# Altium footprint library 172065-00xx.PcbLib: 6 footprints
Each footprint in its own frame and in the unit in brackets; x right, y up, seen from the top. Pads: shape width x height; smd on the part's side, far side on the other; paste and mask are expansions set on the pad; w line width, h text height; cw(c..) or ccw(c..) is an arc to the next point about the centre after c.
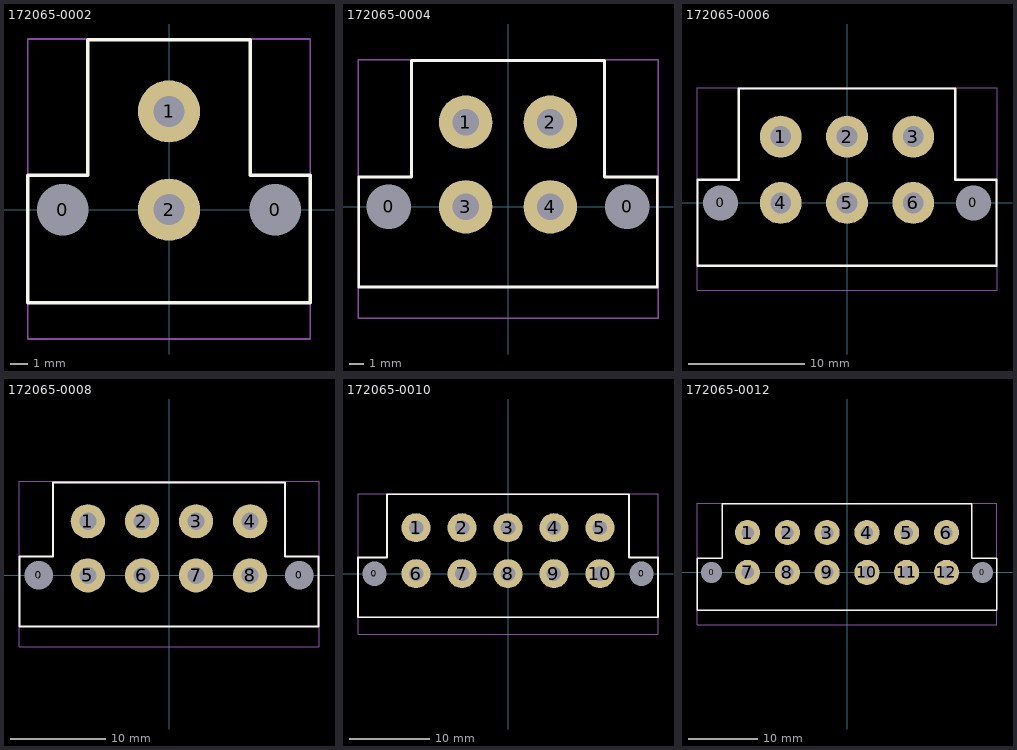
[diagram p0: the footprints below, top view; thin cyan lines are the x and y axes]

## 172065-0002 [mm]
pads (4):
  oval 2x1.5 hole 3: 0(-6.17,0) 0(6.17,0)
  round 3.6 hole 1.8: 1(0,5.7) 2(0,0)
Top Overlay:
  lines w0.2: -8.2,-5.4 -8.2,2 -4.7,2 -4.7,9.85 4.7,9.85 4.7,2 8.2,2 8.2,-5.4 -8.2,-5.4
Border:
  lines w0.1: -8.2,-7.5 8.2,-7.5 8.2,9.9 -8.2,9.9 -8.2,-7.5
3D body "1720650002.stp": height 14.81, standoff -3.75, extent -7.67,-4.97 7.668,9.01

## 172065-0004 [mm]
pads (6):
  oval 2x1.5 hole 3: 0(-8.02,0) 0(8.02,0)
  round 3.6 hole 1.8: 1(-2.85,5.7) 2(2.85,5.7) 3(-2.85,0) 4(2.85,0)
Top Overlay:
  lines w0.2: -10.05,-5.4 -10.05,2 ; -10,-5.4 10.05,-5.4 10.05,2 ; -10,2 -6.5,2 -6.5,9.85 6.5,9.85 6.5,2 10,2
Border:
  lines w0.1: -10.1,-7.5 10.1,-7.5 10.1,9.9 -10.1,9.9 -10.1,-7.5
3D body "1720650004.stp": height 14.8, standoff -3.75, extent -9.545,-4.97 9.545,9.01

## 172065-0006 [mm]
pads (8):
  oval 2x1.5 hole 3: 0(-10.87,0) 0(10.87,0)
  round 3.6 hole 1.8: 1(-5.7,5.7) 2(0,5.7) 3(5.7,5.7) 4(-5.7,0) 5(0,0) 6(5.7,0)
Top Overlay:
  lines w0.2: -12.85,2 -12.85,-5.4 12.85,-5.4 12.85,2 ; -12.8,2 -9.3,2 -9.3,9.85 9.3,9.85 9.3,2 12.8,2
Border:
  lines w0.1: -12.9,-7.5 12.9,-7.5 12.9,9.9 -12.9,9.9 -12.9,-7.5
3D body "1720650006.stp": height 14.8, standoff -3.75, extent -12.395,-4.97 12.395,9.01

## 172065-0008 [mm]
pads (10):
  oval 2x1.5 hole 3: 0(-13.72,0) 0(13.72,0)
  round 3.6 hole 1.8: 1(-8.55,5.7) 2(-2.85,5.7) 3(2.85,5.7) 4(8.55,5.7) 5(-8.55,0) 6(-2.85,0) 7(2.85,0) 8(8.55,0)
Top Overlay:
  lines w0.2: -15.75,2 -15.75,-5.4 15.75,-5.4 15.75,2 ; -15.7,2 -12.2,2 -12.2,9.8 12.2,9.8 12.2,2 15.7,2
Border:
  lines w0.1: -15.8,-7.5 15.8,-7.5 15.8,9.9 -15.8,9.9 -15.8,-7.5
3D body "1720650008.stp": height 14.8, standoff -3.75, extent -15.245,-4.97 15.245,9.01

## 172065-0010 [mm]
pads (12):
  oval 2x1.5 hole 3: 0(-16.57,0) 0(16.57,0)
  round 3.6 hole 1.8: 1(-11.4,5.7) 2(-5.7,5.7) 3(0,5.7) 4(5.7,5.7) 5(11.4,5.7) 6(-11.4,0) 7(-5.7,0) 8(0,0) 9(5.7,0) 10(11.4,0)
Top Overlay:
  lines w0.2: -18.6,-5.4 -18.6,2 -15,2 -15,9.85 15,9.85 15,2 18.6,2 18.6,-5.4 -18.6,-5.4
Border:
  lines w0.1: -18.6,-7.5 18.6,-7.5 18.6,9.9 -18.6,9.9 -18.6,-7.5
3D body "1720650010.stp": height 14.8, standoff -3.75, extent -18.095,-4.97 18.095,9.01

## 172065-0012 [mm]
pads (14):
  oval 2x1.5 hole 3: 0(-19.42,0) 0(19.42,0)
  round 3.6 hole 1.8: 1(-14.25,5.7) 2(-8.55,5.7) 3(-2.85,5.7) 4(2.85,5.7) 5(8.55,5.7) 6(14.25,5.7) 7(-14.25,0) 8(-8.55,0) 9(-2.85,0) 10(2.85,0) 11(8.55,0) 12(14.25,0)
Top Overlay:
  lines w0.2: -21.5,-5.4 21.5,-5.4 21.5,2 17.9,2 17.9,9.8 -17.9,9.8 -17.9,2 -21.5,2 -21.5,-5.4
Border:
  lines w0.1: -21.5,-7.5 -21.5,9.9 21.5,9.9 21.5,-7.5 -21.5,-7.5
3D body "1720650012.stp": height 14.8, standoff -3.75, extent -20.92,-4.97 20.92,9.01